# Altium footprint library CONN HEADERS 2.54MM PITCH FRICTION LOCK.pcblib: 20 footprints (part 1 of 2)
Each footprint in its own frame and in the unit in brackets; x right, y up, seen from the top. Pads: shape width x height; smd on the part's side, far side on the other; paste and mask are expansions set on the pad; w line width, h text height; cw(c..) or ccw(c..) is an arc to the next point about the centre after c.
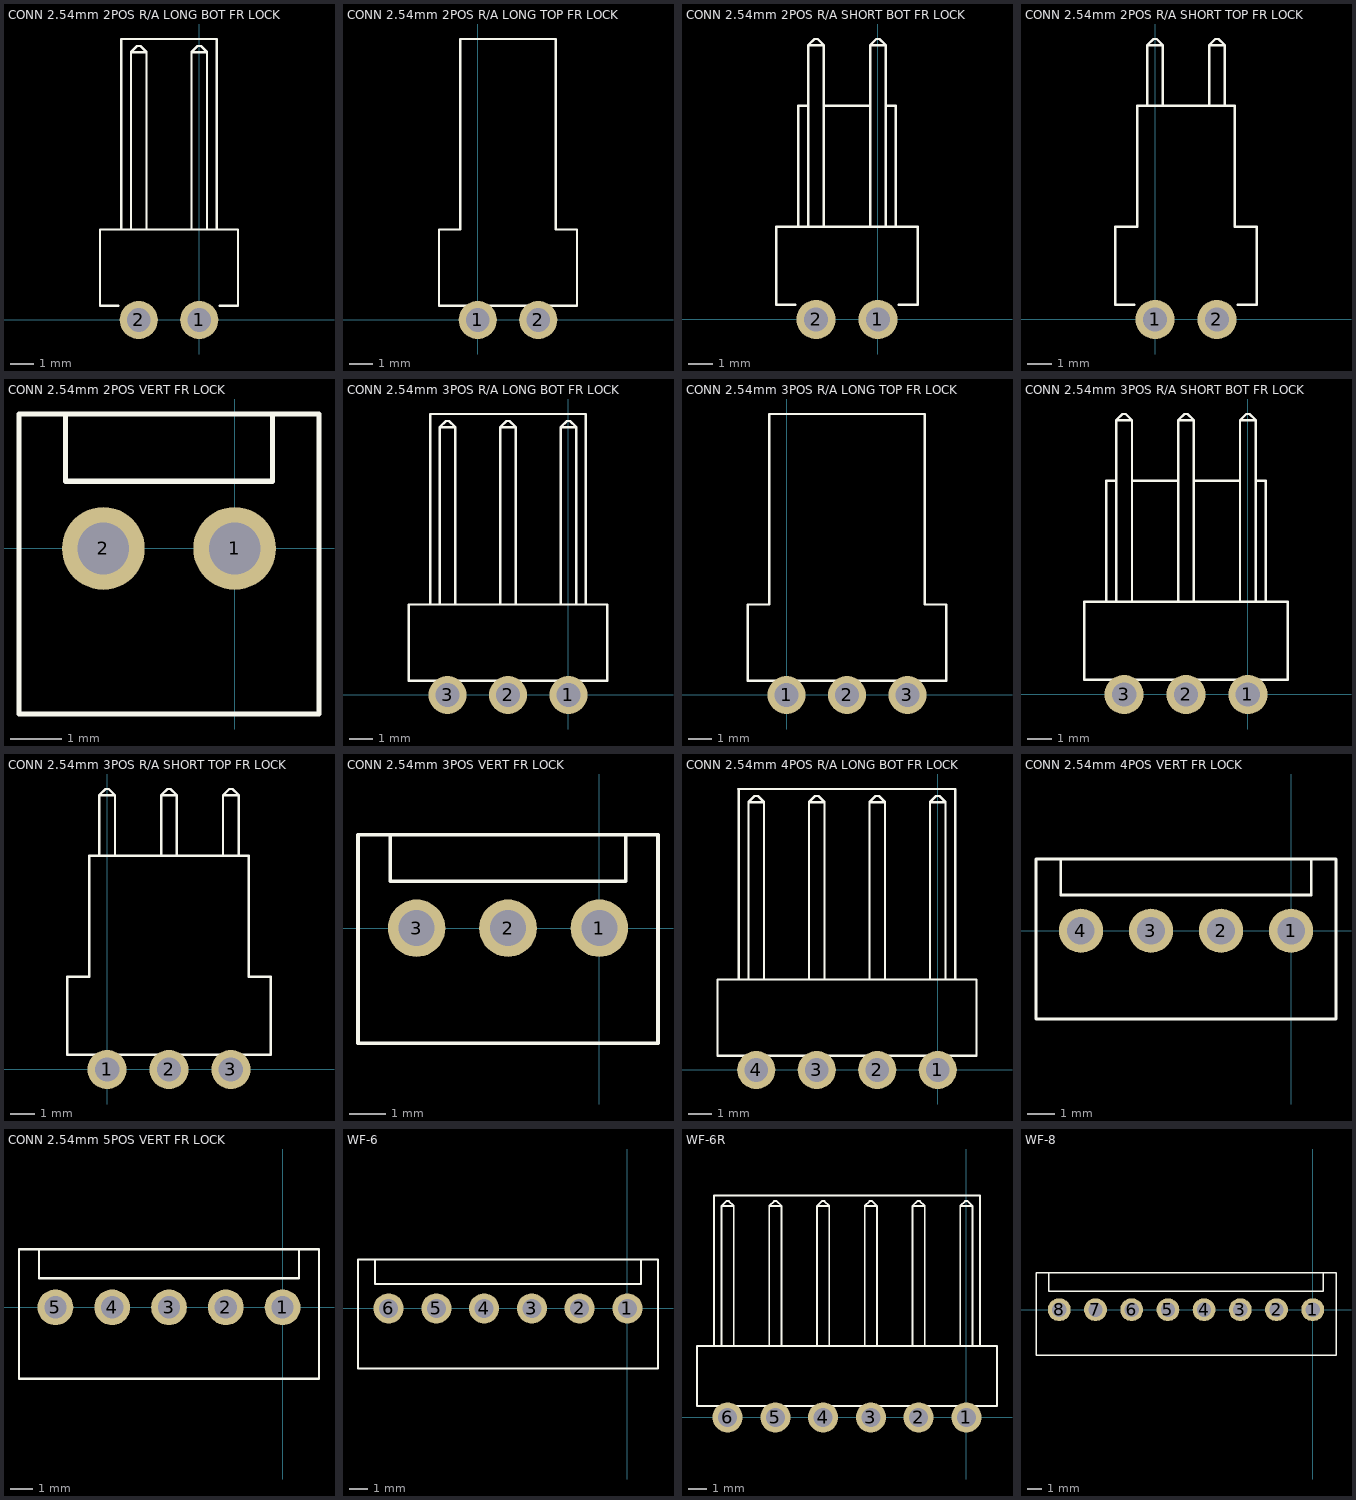
[diagram p0: the footprints below, top view; thin cyan lines are the x and y axes]

## CONN 2.54mm 2POS R/A LONG BOT FR LOCK [mm] "CONN 2.54mm 2POS RIGHT ANGLE, LONG BOTTOM FRICTION LOCK"
height 5.8
pads (2):
  round 1.6 hole 1: 1(0,0) 2(-2.54,0)
Top Overlay:
  lines w0.1: -3.395,0.6 -4.17,0.6 -4.17,3.8 1.63,3.8 1.63,0.6 0.855,0.6 ; -3.27,3.8 -3.27,11.8 0.73,11.8 0.73,3.8 ; -2.865,3.8 -2.865,11.25 ; -2.215,3.8 -2.215,11.25 ; -0.325,3.8 -0.325,11.25 ; 0.325,3.8 0.325,11.25 ; -2.865,11.25 -2.215,11.25 ; -2.865,11.25 -2.609,11.506 -2.54,11.506 -2.471,11.506 -2.215,11.25 ; -0.325,11.25 -0.069,11.506 0,11.506 0.069,11.506 0.325,11.25 ; -0.325,11.25 0.325,11.25
3D body "WF-2R.SLDPRT": height 5.8, standoff -3.4, extent -3.84,-0.3 1.24,12.9

## CONN 2.54mm 2POS R/A LONG TOP FR LOCK [mm] "CONN 2.54mm 2POS RIGHT ANGLE, LONG TOP FRICTION LOCK"
height 5.8
pads (2):
  round 1.6 hole 1: 1(0,0) 2(2.54,0)
Top Overlay:
  lines w0.1: -1.63,0.6 4.17,0.6 4.17,3.8 3.27,3.8 3.27,11.8 -0.73,11.8 -0.73,3.8 -1.63,3.8 -1.63,0.6

## CONN 2.54mm 2POS R/A SHORT BOT FR LOCK [mm] "CONN 2.54mm 2POS RIGHT ANGLE, SHORT BOTTOM FRICTION LOCK"
height 5.8
pads (2):
  round 1.6 hole 1: 1(0,0) 2(-2.54,0)
Top Overlay:
  lines w0.1: -3.395,0.6 -4.17,0.6 -4.17,3.8 1.63,3.8 1.63,0.6 0.855,0.6 ; -3.27,3.8 -3.27,8.775 -2.87,8.775 ; -2.865,3.8 -2.865,11.25 ; -2.215,3.8 -2.215,11.25 ; -2.215,8.775 -0.32,8.775 ; -0.325,3.8 -0.325,11.25 ; 0.325,3.8 0.325,11.25 ; 0.33,8.775 0.73,8.775 0.73,3.8 ; -2.865,11.25 -2.609,11.506 -2.54,11.506 -2.471,11.506 -2.215,11.25 ; -2.865,11.25 -2.215,11.25 ; -0.325,11.25 0.325,11.25 ; -0.325,11.25 -0.069,11.506 0,11.506 0.069,11.506 0.325,11.25

## CONN 2.54mm 2POS R/A SHORT TOP FR LOCK [mm] "CONN 2.54mm 2POS RIGHT ANGLE, SHORT TOP FRICTION LOCK"
height 5.8
pads (2):
  round 1.6 hole 1: 1(0,0) 2(2.54,0)
Top Overlay:
  lines w0.1: -0.855,0.6 -1.63,0.6 -1.63,3.8 -0.73,3.8 -0.73,8.775 3.27,8.775 3.27,3.8 4.17,3.8 4.17,0.6 3.395,0.6 ; -0.325,8.775 -0.325,11.25 ; 0.325,8.775 0.325,11.25 ; 2.215,8.775 2.215,11.25 ; 2.865,8.775 2.865,11.25 ; -0.325,11.25 -0.069,11.506 0,11.506 0.069,11.506 0.325,11.25 ; -0.325,11.25 0.325,11.25 ; 2.215,11.25 2.865,11.25 ; 2.215,11.25 2.471,11.506 2.54,11.506 2.609,11.506 2.865,11.25

## CONN 2.54mm 2POS VERT FR LOCK [mm] "CONN 2.54mm 2POS, VERTICAL, FRICTION LOCK"
height 11.2
pads (2):
  round 1.6 hole 1: 1(0,0) 2(-2.54,0)
Top Overlay:
  lines w0.1: -3.27,2.6 -3.27,1.3 0.73,1.3 0.73,2.6 ; -4.17,-3.2 -4.17,2.6 1.63,2.6 1.63,-3.2 -4.17,-3.2
3D body "WF-2-1_Case WF-2.SLDPRT": height 11.4, standoff 0, extent -3.8,-3.15 1.2,2.65
3D body "WF-2-1_Pin 2.SLDPRT": height 11.2, standoff -3, extent -2.89,-0.35 -2.19,0.35
3D body "WF-2-1_Pin 2.SLDPRT": height 11.2, standoff -3, extent -0.35,-0.35 0.35,0.35

## CONN 2.54mm 3POS R/A LONG BOT FR LOCK [mm] "CONN 2.54mm 3POS RIGHT ANGLE, LONG BOTTOM FRICTION LOCK"
height 5.8
pads (3):
  round 1.6 hole 1: 1(0,0) 2(-2.54,0) 3(-5.08,0)
Top Overlay:
  lines w0.1: -5.81,3.8 -5.81,11.8 0.73,11.8 0.73,3.8 ; -5.405,3.8 -5.405,11.25 ; -4.755,3.8 -4.755,11.25 ; -2.865,3.8 -2.865,11.25 ; -2.215,3.8 -2.215,11.25 ; -0.325,3.8 -0.325,11.25 ; 0.325,3.8 0.325,11.25 ; -5.405,11.25 -5.149,11.506 -5.08,11.506 -5.011,11.506 -4.755,11.25 ; -5.405,11.25 -4.755,11.25 ; -2.865,11.25 -2.215,11.25 ; -2.865,11.25 -2.609,11.506 -2.54,11.506 -2.471,11.506 -2.215,11.25 ; -0.325,11.25 -0.069,11.506 0,11.506 0.069,11.506 0.325,11.25 ; -0.325,11.25 0.325,11.25 ; -6.71,0.6 -6.71,3.8 1.63,3.8 1.63,0.6 -6.71,0.6
3D body "STEP-61900311021-rev1.stp": height 5.9, standoff -3.3, extent -6.35,-0.381 1.27,13.139

## CONN 2.54mm 3POS R/A LONG TOP FR LOCK [mm] "CONN 2.54mm 3POS RIGHT ANGLE, LONG BOTTOM FRICTION LOCK"
height 5.8
pads (3):
  round 1.6 hole 1: 1(0,0) 2(2.54,0) 3(5.08,0)
Top Overlay:
  lines w0.1: -1.63,0.6 -1.63,3.8 -0.73,3.8 -0.73,11.8 5.81,11.8 5.81,3.8 6.71,3.8 6.71,0.6 -1.63,0.6

## CONN 2.54mm 3POS R/A SHORT BOT FR LOCK [mm] "CONN 2.54mm 3POS RIGHT ANGLE, SHORT BOTTOM FRICTION LOCK"
height 5.8
pads (3):
  round 1.6 hole 1: 1(0,0) 2(-2.54,0) 3(-5.08,0)
Top Overlay:
  lines w0.1: -5.81,3.8 -5.81,8.775 -5.405,8.775 ; -5.405,3.8 -5.405,11.25 ; -4.755,3.8 -4.755,11.25 ; -4.755,8.775 -2.865,8.775 ; -2.865,3.8 -2.865,11.25 ; -2.215,3.8 -2.215,11.25 ; -2.215,8.775 -0.325,8.775 ; -0.325,3.8 -0.325,11.25 ; 0.325,3.8 0.325,11.25 ; 0.325,8.775 0.73,8.775 0.73,3.8 ; -5.405,11.25 -5.149,11.506 -5.08,11.506 -5.011,11.506 -4.755,11.25 ; -5.405,11.25 -4.755,11.25 ; -2.865,11.25 -2.215,11.25 ; -2.865,11.25 -2.609,11.506 -2.54,11.506 -2.471,11.506 -2.215,11.25 ; -0.325,11.25 -0.069,11.506 0,11.506 0.069,11.506 0.325,11.25 ; -0.325,11.25 0.325,11.25 ; -6.71,0.6 -6.71,3.8 1.63,3.8 1.63,0.6 -6.71,0.6

## CONN 2.54mm 3POS R/A SHORT TOP FR LOCK [mm] "CONN 2.54mm 3POS RIGHT ANGLE, SHORT BOTTOM FRICTION LOCK"
height 5.8
pads (3):
  round 1.6 hole 1: 1(0,0) 2(2.54,0) 3(5.08,0)
Top Overlay:
  lines w0.1: -0.325,8.775 -0.325,11.25 ; 0.325,8.775 0.325,11.25 ; 2.215,8.775 2.215,11.25 ; 2.865,8.775 2.865,11.25 ; 4.755,8.775 4.755,11.25 ; 5.405,8.775 5.405,11.25 ; -0.325,11.25 0.325,11.25 ; -0.325,11.25 -0.069,11.506 0,11.506 0.069,11.506 0.325,11.25 ; 2.215,11.25 2.471,11.506 2.54,11.506 2.609,11.506 2.865,11.25 ; 2.215,11.25 2.865,11.25 ; 4.755,11.25 5.405,11.25 ; 4.755,11.25 5.011,11.506 5.08,11.506 5.149,11.506 5.405,11.25 ; -1.63,0.6 6.71,0.6 6.71,3.8 5.81,3.8 5.81,8.775 -0.73,8.775 -0.73,3.8 -1.63,3.8 -1.63,0.6

## CONN 2.54mm 3POS VERT FR LOCK [mm] "CONN 2.54mm 3POS, VERTICAL, FRICTION LOCK"
height 11.2
pads (3):
  round 1.6 hole 1: 1(0,0) 2(-2.54,0) 3(-5.08,0)
Top Overlay:
  lines w0.1: -5.81,2.6 -5.81,1.3 0.73,1.3 0.73,2.6 ; -6.71,-3.2 1.63,-3.2 1.63,2.6 -6.71,2.6 -6.71,-3.2
3D body "WF-3-1_Case WF-3.SLDPRT": height 11.4, standoff 0, extent -6.3,-3.2 1.2,2.6
3D body "WF-3-1_Pin 2.SLDPRT": height 11.2, standoff -3, extent -5.43,-0.35 -4.73,0.35
3D body "WF-3-1_Pin 2.SLDPRT": height 11.2, standoff -3, extent -2.89,-0.35 -2.19,0.35
3D body "WF-3-1_Pin 2.SLDPRT": height 11.2, standoff -3, extent -0.35,-0.35 0.35,0.35

## CONN 2.54mm 4POS R/A LONG BOT FR LOCK [mm] "CONN 2.54mm 4POS RIGHT ANGLE, LONG BOTTOM FRICTION LOCK"
height 5.8
pads (4):
  round 1.6 hole 1: 1(0,0) 2(-2.54,0) 3(-5.08,0) 4(-7.62,0)
Top Overlay:
  lines w0.1: -8.382,11.8 0.73,11.8 0.73,3.8 ; -8.35,3.8 -8.35,11.8 ; -7.945,3.8 -7.945,11.25 ; -7.295,3.8 -7.295,11.25 ; -5.405,3.8 -5.405,11.25 ; -4.755,3.8 -4.755,11.25 ; -2.865,3.8 -2.865,11.25 ; -2.215,3.8 -2.215,11.25 ; -0.325,3.8 -0.325,11.25 ; 0.325,3.8 0.325,11.25 ; -7.945,11.25 -7.295,11.25 ; -7.945,11.25 -7.689,11.506 -7.62,11.506 -7.551,11.506 -7.295,11.25 ; -5.405,11.25 -5.149,11.506 -5.08,11.506 -5.011,11.506 -4.755,11.25 ; -5.405,11.25 -4.755,11.25 ; -2.865,11.25 -2.215,11.25 ; -2.865,11.25 -2.609,11.506 -2.54,11.506 -2.471,11.506 -2.215,11.25 ; -0.325,11.25 -0.069,11.506 0,11.506 0.069,11.506 0.325,11.25 ; -0.325,11.25 0.325,11.25 ; -9.25,0.6 -9.25,3.8 1.63,3.8 1.63,0.6 -9.25,0.6
3D body "STEP-61900411021-rev1.stp": height 5.9, standoff -3.3, extent -8.89,-0.381 1.27,13.139

## CONN 2.54mm 4POS VERT FR LOCK [mm] "CONN 2.54mm 4POS, VERTICAL, FRICTION LOCK"
height 11.2
pads (4):
  round 1.6 hole 1: 1(0,0) 2(-2.54,0) 3(-5.08,0) 4(-7.62,0)
Top Overlay:
  lines w0.1: -8.35,2.6 -8.35,1.3 0.73,1.3 0.73,2.6 ; -9.25,-3.2 1.63,-3.2 1.63,2.6 -9.25,2.6 -9.25,-3.2
3D body "WF-4.SLDPRT": height 11.73, standoff -2.55, extent -8.88,-3.2 1.28,2.7

## CONN 2.54mm 5POS VERT FR LOCK [mm] "CONN 2.54mm 5POS, VERTICAL, FRICTION LOCK"
height 11.2
pads (5):
  round 1.6 hole 1: 1(0,0) 2(-2.54,0) 3(-5.08,0) 4(-7.62,0) 5(-10.16,0)
Top Overlay:
  lines w0.1: -10.89,2.6 -10.89,1.3 0.73,1.3 0.73,2.6 ; -11.79,-3.2 -11.79,2.6 1.63,2.6 1.63,-3.2 -11.79,-3.2
3D body "WF-5.SLDPRT": height 11.56, standoff -3.24, extent -11.38,-3.198 1.32,2.602

## WF-6 [mm] "WF-6 6POS VERTICAL, LONG FRICTION LOCK"
height 11.2
pads (6):
  round 1.6 hole 1: 1(0,0) 2(-2.54,0) 3(-5.08,0) 4(-7.62,0) 5(-10.16,0) 6(-12.7,0)
Top Overlay:
  lines w0.1: -13.43,2.6 -13.43,1.3 0.73,1.3 0.73,2.6 ; -14.33,-3.2 1.63,-3.2 1.63,2.6 -14.33,2.6 -14.33,-3.2
3D body "SWR25X-NRTC-S06-ST-BA.STEP": height 11.45, standoff -3.35, extent -14,-3.175 1.3,2.625

## WF-6R [mm] "WF-6R 6POS RIGHT ANGLE, LONG BOTTOM FRICTION LOCK"
height 5.8
pads (6):
  round 1.6 hole 1: 1(0,0) 2(-2.54,0) 3(-5.08,0) 4(-7.62,0) 5(-10.16,0) 6(-12.7,0)
Top Overlay:
  lines w0.1: -13.43,3.8 -13.43,11.8 0.73,11.8 0.73,3.8 ; -13.025,3.8 -13.025,11.25 ; -12.375,3.8 -12.375,11.25 ; -10.485,3.8 -10.485,11.25 ; -9.835,3.8 -9.835,11.25 ; -7.945,3.8 -7.945,11.25 ; -7.295,3.8 -7.295,11.25 ; -5.405,3.8 -5.405,11.25 ; -4.755,3.8 -4.755,11.25 ; -2.865,3.8 -2.865,11.25 ; -2.215,3.8 -2.215,11.25 ; -0.325,3.8 -0.325,11.25 ; 0.325,3.8 0.325,11.25 ; -13.025,11.25 -12.769,11.506 -12.7,11.506 -12.631,11.506 -12.375,11.25 ; -13.025,11.25 -12.375,11.25 ; -10.485,11.25 -10.229,11.506 -10.16,11.506 -10.091,11.506 -9.835,11.25 ; -10.485,11.25 -9.835,11.25 ; -7.945,11.25 -7.295,11.25 ; -7.945,11.25 -7.689,11.506 -7.62,11.506 -7.551,11.506 -7.295,11.25 ; -5.405,11.25 -5.149,11.506 -5.08,11.506 -5.011,11.506 -4.755,11.25 ; -5.405,11.25 -4.755,11.25 ; -2.865,11.25 -2.215,11.25 ; -2.865,11.25 -2.609,11.506 -2.54,11.506 -2.471,11.506 -2.215,11.25 ; -0.325,11.25 -0.069,11.506 0,11.506 0.069,11.506 0.325,11.25 ; -0.325,11.25 0.325,11.25 ; -14.33,0.6 1.63,0.6 1.63,3.8 -14.33,3.8 -14.33,0.6

## WF-8 [mm] "WF-8 8POS VERTICAL, LONG FRICTION LOCK"
height 11.2
pads (8):
  round 1.6 hole 1: 1(0,0) 2(-2.54,0) 3(-5.08,0) 4(-7.62,0) 5(-10.16,0) 6(-12.7,0) 7(-15.24,0) 8(-17.78,0)
Top Overlay:
  lines w0.1: -18.51,2.6 -18.51,1.3 0.73,1.3 0.73,2.6 ; -19.41,-3.2 -19.41,2.6 1.63,2.6 1.63,-3.2 -19.41,-3.2
3D body "SWR25X-NRTC-S08-ST-BA.STEP": height 11.45, standoff -3.35, extent -19.13,-3.175 1.35,2.625